# Altium footprint library SMH-6.PcbLib: 1 footprints
Each footprint in its own frame and in the unit in brackets; x right, y up, seen from the top. Pads: shape width x height; smd on the part's side, far side on the other; paste and mask are expansions set on the pad; w line width, h text height; cw(c..) or ccw(c..) is an arc to the next point about the centre after c.
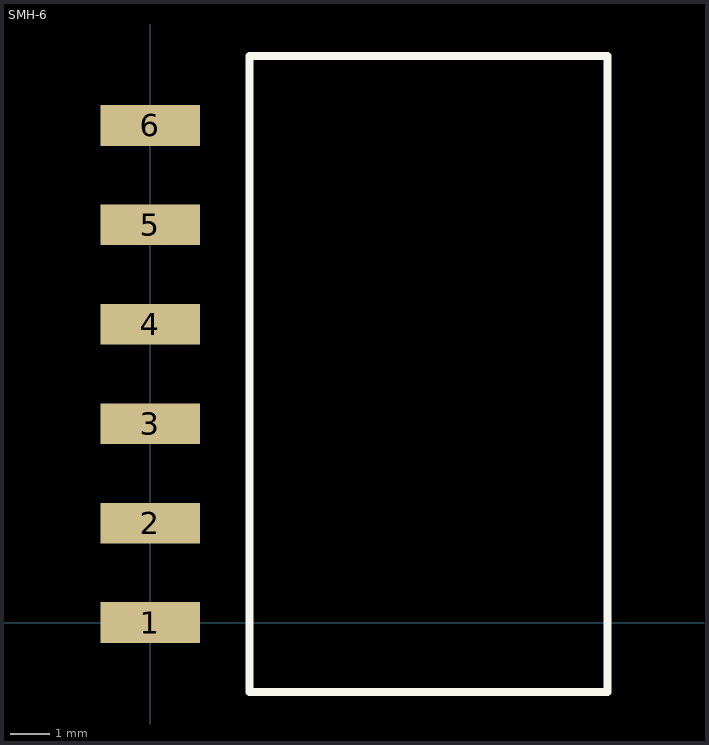
[diagram p0: the footprint, top view; thin cyan lines are the x and y axes]

## SMH-6 [mil]
pads (6):
  rect 100x41 smd: 1(0,0) 2(0,100) 3(0,200) 4(0,300) 5(0,400) 6(0,500)
TopOverlay:
  lines w8: 100,-70 460,-70 460,570 100,570 100,-70